# EAGLE library part W25Q128JVSIM (library W25Q128JVSIM)
None Check availability <https://pricing.snapeda.com/parts/W25Q128JVSIM/Winbond%20Electronics/view-part?ref=eda>
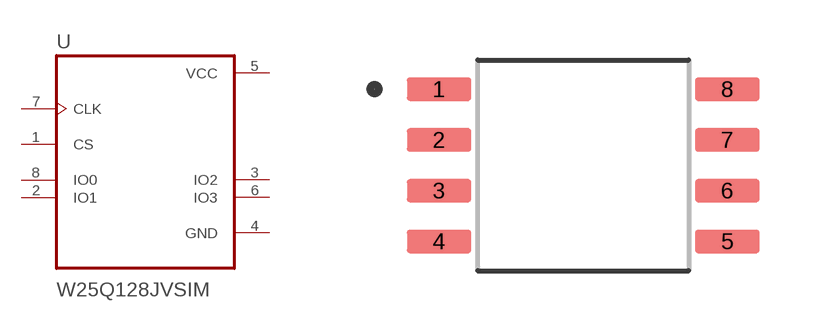
[diagram p0: symbol with the pads of SOIC127P790X216-8N; footprint SOIC127P790X216-8N]

Designator prefix U

## W25Q128JVSIM (AVAILABILITY: In Stock; CHECK_PRICES: https://www.snapeda.com/parts/W25Q128JVSIM/Winbond+Electronics/view-part/?ref=eda; DESCRIPTION: FLASH - NOR Memory IC 128Mb (16M x 8) SPI - Quad I/O, QPI, DTR 133 MHz 8-SOIC; MF: Winbond Electronics; MP: W25Q128JVSIM; PACKAGE: SOIC-8 Winbond Electronics; PRICE: None; PURCHASE-URL: https://pricing.snapeda.com/search?q=W25Q128JVSIM&ref=eda; SNAPEDA_LINK: https://www.snapeda.com/parts/W25Q128JVSIM/Winbond+Electronics/view-part/?ref=snap)  [SOIC127P790X216-8N]
1  CS
2  IO1
3  IO2
4  GND  pwr
5  VCC  pwr
6  IO3
7  CLK  in
8  IO0

## Footprint SOIC127P790X216-8N (pad centres in mm)
smd 1.61 x 0.58: 1 -3.605,1.905; 2 -3.605,0.635; 3 -3.605,-0.635; 4 -3.605,-1.905; 5 3.605,-1.905; 6 3.605,-0.635; 7 3.605,0.635; 8 3.605,1.905